# Altium schematic symbol library K60_100.SchLib: 1 symbol
Pins are listed as number, name and electrical type; pins without a type are passive.

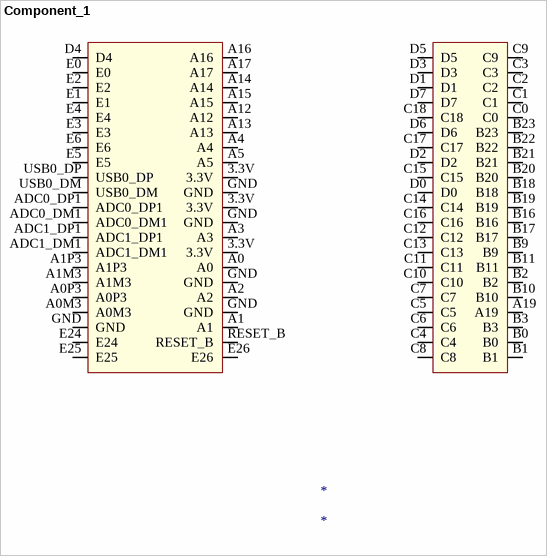
[diagram p0: symbol Component_1]

## Component_1
designator *
pins: 3.3V, 3.3V, 3.3V, A0, A0M3, A0P3, A1, A1M3, A1P3, A2, A3, A4, A5, A12, A13, A14, A15, A16, A17, A19, ADC0_DM1, ADC0_DP1, ADC1_DM1, ADC1_DP1, B0, B1, B2, B3, B9, B10, B11, B16, B17, B18, B19, B20, B21, B22, B23, C0, C1, C2, C3, C4, C5, C6, C7, C8, C9, C10, C11, C12, C13, C14, C15, C16, C17, C18, D0, D1, D2, D3, D4, D5, D6, D7, E0, E1, E2, E3, E4, E5, E6, E24, E25, E26, GND, GND, GND, GND, GND, RESET_B, USB0_DM, USB0_DP